# Altium footprint library CPU.PcbLib: 75 footprints (part 1 of 5)
Each footprint in its own frame and in the unit in brackets; x right, y up, seen from the top. Pads: shape width x height; smd on the part's side, far side on the other; paste and mask are expansions set on the pad; w line width, h text height; cw(c..) or ccw(c..) is an arc to the next point about the centre after c.
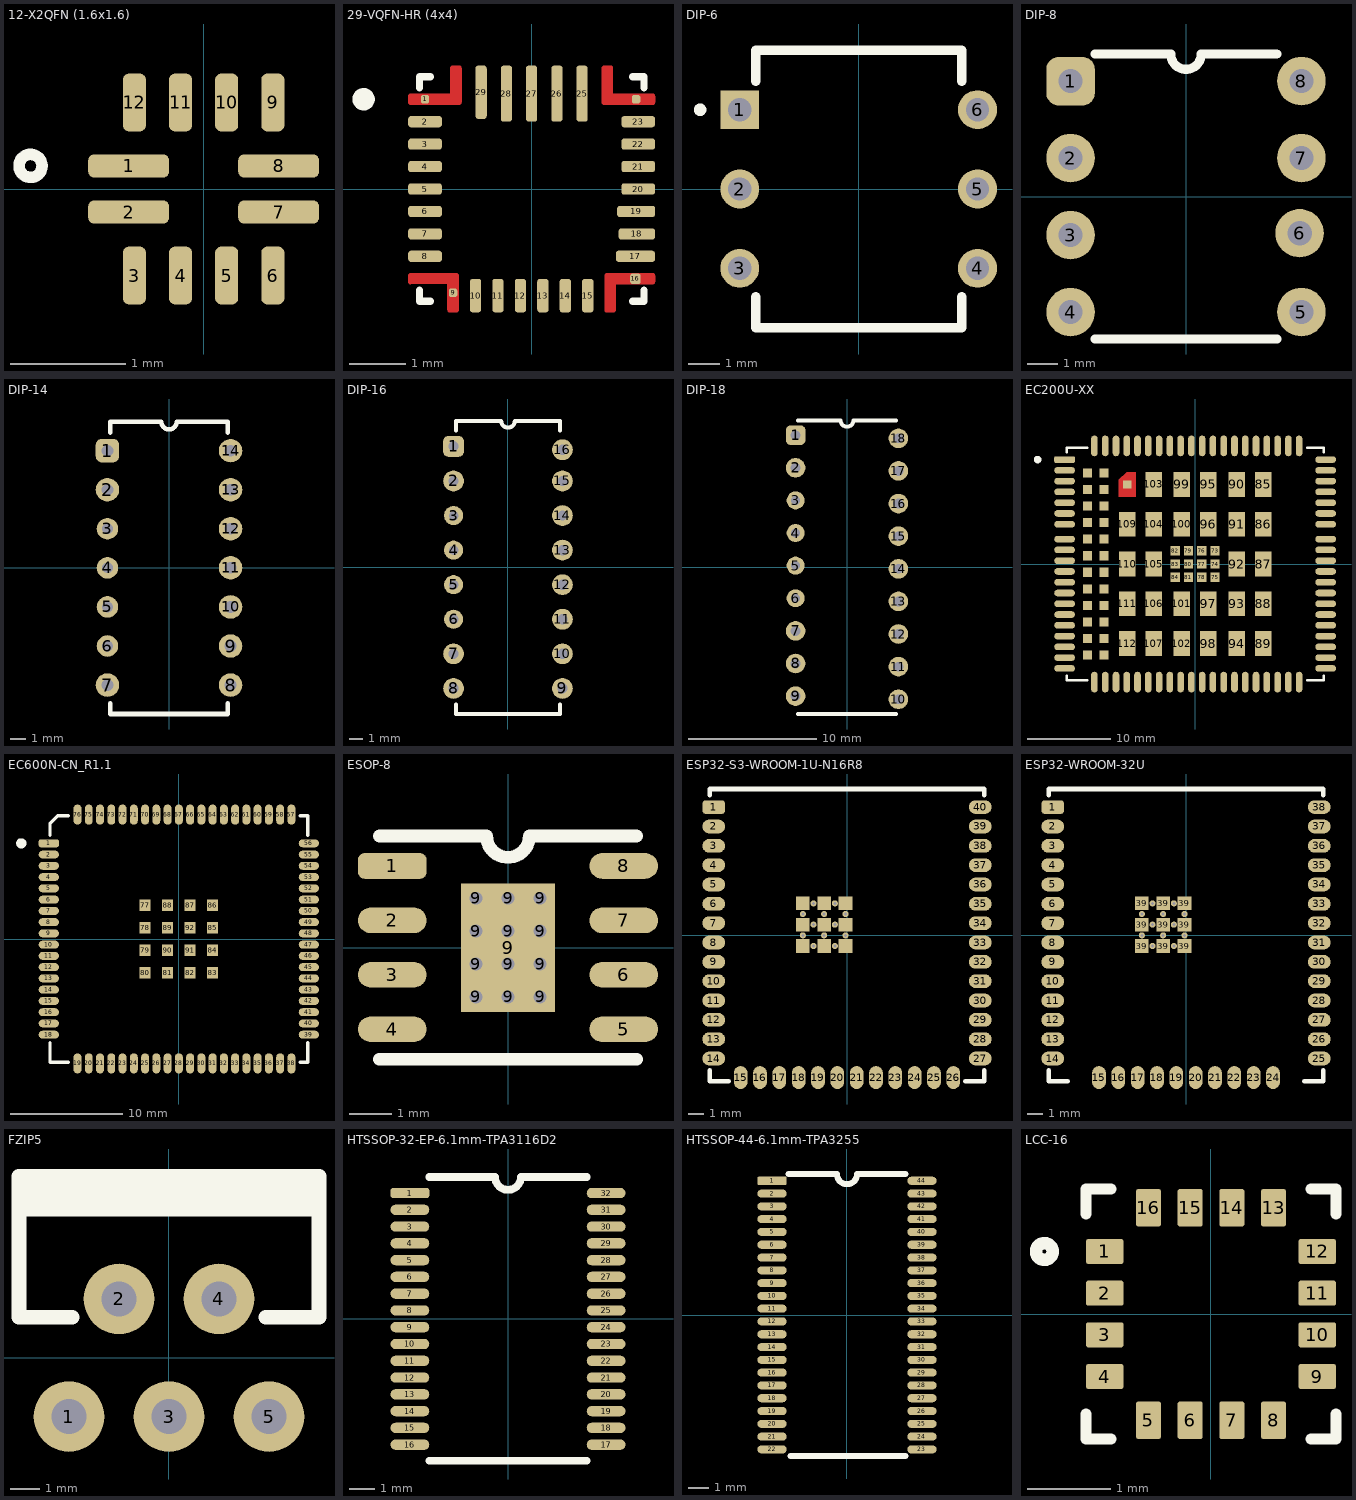
[diagram p0: the footprints below, top view; thin cyan lines are the x and y axes]

## 12-X2QFN (1.6x1.6) [mm]
pads (12):
  rrect50% 0.7x0.2 smd: 1(-0.65,0.2) 2(-0.65,-0.2) 7(0.65,-0.2) 8(0.65,0.2)
  rrect50% 0.2x0.5 smd: 3(-0.6,-0.75) 4(-0.2,-0.75) 5(0.2,-0.75) 6(0.6,-0.75) 9(0.6,0.75) 10(0.2,0.75) 11(-0.2,0.75) 12(-0.6,0.75)
Top Overlay:
  circle w0.1: c-1.5,0.2 r0.1
Top Solder:
  drawing of 2 lines, arcs and shapes, not listed
3D body "step_temp.STEP": height 0.4, standoff 0, extent -0.8,-0.8 0.8,0.8

## 29-VQFN-HR (4x4) [mm]
height 1
pads (29):
  rrect50% 0.15x0.15 smd paste-1 mask+0: 1(-1.9,1.6) 9(-1.4,-1.85) 24(1.863,1.6)
  rrect50% 0.6x0.2 smd mask+0: 2(-1.9,1.2) 3(-1.9,0.8) 4(-1.9,0.4) 5(-1.9,0) 6(-1.9,-0.4) 7(-1.9,-0.8) 8(-1.9,-1.2) 20(1.9,0) 21(1.9,0.4) 22(1.9,0.8) 23(1.9,1.2)
  rrect50% 0.2x0.6 smd mask+0: 10(-1,-1.9) 11(-0.6,-1.9) 12(-0.2,-1.9) 13(0.2,-1.9) 14(0.6,-1.9) 15(1,-1.9)
  rrect50% 0.19x0.19 smd paste-1 mask+0: 16(1.85,-1.6)
  rrect50% 0.7x0.2 smd mask+0: 17(1.85,-1.2)
  rrect50% 0.65x0.2 smd mask+0: 18(1.875,-0.8)
  rrect50% 0.68x0.2 smd mask+0: 19(1.863,-0.4)
  rrect50% 0.2x1 smd mask+0: 25(0.9,1.7) 26(0.45,1.7) 27(0,1.7) 28(-0.45,1.7)
  rrect50% 0.2x0.95 smd mask+0: 29(-0.9,1.725)
Top Layer:
  region: 2.158,-1.501 2.16,-1.501 2.163,-1.502 2.165,-1.502 2.168,-1.503 2.17,-1.504 2.173,-1.505 2.175,-1.507 2.177,-1.508 2.179,-1.51 2.181,-1.511 2.183,-1.513 2.185,-1.515 2.187,-1.517 2.189,-1.519 2.19,-1.521 2.192,-1.523 2.193,-1.525 2.195,-1.527 2.196,-1.53 2.197,-1.532 2.198,-1.535 2.198,-1.537 2.199,-1.54 2.199,-1.542 2.2,-1.545 2.2,-1.547 2.2,-1.55 2.2,-1.65 2.2,-1.653 2.2,-1.655 2.199,-1.658 2.199,-1.66 2.198,-1.663 2.198,-1.665 2.197,-1.668 2.196,-1.67 2.195,-1.673 2.193,-1.675 2.192,-1.677 2.19,-1.679 2.189,-1.681 2.187,-1.683 2.185,-1.685 2.183,-1.687 2.181,-1.689 2.179,-1.69 2.177,-1.692 2.175,-1.693 2.173,-1.695 2.17,-1.696 2.168,-1.697 2.165,-1.698 2.163,-1.698 2.16,-1.699 2.158,-1.699 2.155,-1.7 1.5,-1.7 1.5,-2.15 1.5,-2.153 1.5,-2.155 1.499,-2.158 1.499,-2.16 1.498,-2.163 1.498,-2.165 1.497,-2.168 1.496,-2.17 1.495,-2.173 1.493,-2.175 1.492,-2.177 1.49,-2.179 1.489,-2.181 1.487,-2.183 1.485,-2.185 1.483,-2.187 1.481,-2.189 1.479,-2.19 1.477,-2.192 1.475,-2.193 1.473,-2.195 1.47,-2.196 1.468,-2.197 1.465,-2.198 1.463,-2.198 1.46,-2.199 1.458,-2.199 1.455,-2.2 1.345,-2.2 1.342,-2.199 1.34,-2.199 1.337,-2.198 1.335,-2.198 1.332,-2.197 1.33,-2.196 1.327,-2.195 1.325,-2.193 1.323,-2.192 1.321,-2.19 1.319,-2.189 1.317,-2.187 1.315,-2.185 1.313,-2.183 1.311,-2.181 1.31,-2.179 1.308,-2.177 1.307,-2.175 1.305,-2.173 1.304,-2.17 1.303,-2.168 1.302,-2.165 1.302,-2.163 1.301,-2.16 1.301,-2.158 1.3,-2.155 1.3,-2.153 1.3,-2.15 1.3,-1.55 1.3,-1.547 1.3,-1.545 1.301,-1.542 1.301,-1.54 1.302,-1.537 1.302,-1.535 1.303,-1.532 1.304,-1.53 1.305,-1.527 1.307,-1.525 1.308,-1.523 1.31,-1.521 1.311,-1.519 1.313,-1.517 1.315,-1.515 1.317,-1.513 1.319,-1.511 1.321,-1.51 1.323,-1.508 1.325,-1.507 1.327,-1.505 1.33,-1.504 1.332,-1.503 1.335,-1.502 1.337,-1.502 1.34,-1.501 1.342,-1.501 1.345,-1.5 2.155,-1.5
  region: -1.342,-1.501 -1.34,-1.501 -1.337,-1.502 -1.335,-1.502 -1.332,-1.503 -1.33,-1.504 -1.327,-1.505 -1.325,-1.507 -1.323,-1.508 -1.321,-1.51 -1.319,-1.511 -1.317,-1.513 -1.315,-1.515 -1.313,-1.517 -1.311,-1.519 -1.31,-1.521 -1.308,-1.523 -1.307,-1.525 -1.305,-1.527 -1.304,-1.53 -1.303,-1.532 -1.302,-1.535 -1.302,-1.537 -1.301,-1.54 -1.301,-1.542 -1.3,-1.545 -1.3,-1.547 -1.3,-1.55 -1.3,-2.15 -1.3,-2.153 -1.3,-2.155 -1.301,-2.158 -1.301,-2.16 -1.302,-2.163 -1.302,-2.165 -1.303,-2.168 -1.304,-2.17 -1.305,-2.173 -1.307,-2.175 -1.308,-2.177 -1.31,-2.179 -1.311,-2.181 -1.313,-2.183 -1.315,-2.185 -1.317,-2.187 -1.319,-2.189 -1.321,-2.19 -1.323,-2.192 -1.325,-2.193 -1.327,-2.195 -1.33,-2.196 -1.332,-2.197 -1.335,-2.198 -1.337,-2.198 -1.34,-2.199 -1.342,-2.199 -1.345,-2.2 -1.455,-2.2 -1.458,-2.199 -1.46,-2.199 -1.463,-2.198 -1.465,-2.198 -1.468,-2.197 -1.47,-2.196 -1.473,-2.195 -1.475,-2.193 -1.477,-2.192 -1.479,-2.19 -1.481,-2.189 -1.483,-2.187 -1.485,-2.185 -1.487,-2.183 -1.489,-2.181 -1.49,-2.179 -1.492,-2.177 -1.493,-2.175 -1.495,-2.173 -1.496,-2.17 -1.497,-2.168 -1.498,-2.165 -1.498,-2.163 -1.499,-2.16 -1.499,-2.158 -1.5,-2.155 -1.5,-2.153 -1.5,-2.15 -1.5,-1.7 -2.155,-1.7 -2.158,-1.699 -2.16,-1.699 -2.163,-1.698 -2.165,-1.698 -2.168,-1.697 -2.17,-1.696 -2.173,-1.695 -2.175,-1.693 -2.177,-1.692 -2.179,-1.69 -2.181,-1.689 -2.183,-1.687 -2.185,-1.685 -2.187,-1.683 -2.189,-1.681 -2.19,-1.679 -2.192,-1.677 -2.193,-1.675 -2.195,-1.673 -2.196,-1.67 -2.197,-1.668 -2.198,-1.665 -2.198,-1.663 -2.199,-1.66 -2.199,-1.658 -2.2,-1.655 -2.2,-1.653 -2.2,-1.65 -2.2,-1.55 -2.2,-1.547 -2.2,-1.545 -2.199,-1.542 -2.199,-1.54 -2.198,-1.537 -2.198,-1.535 -2.197,-1.532 -2.196,-1.53 -2.195,-1.527 -2.193,-1.525 -2.192,-1.523 -2.19,-1.521 -2.189,-1.519 -2.187,-1.517 -2.185,-1.515 -2.183,-1.513 -2.181,-1.511 -2.179,-1.51 -2.177,-1.508 -2.175,-1.507 -2.173,-1.505 -2.17,-1.504 -2.168,-1.503 -2.165,-1.502 -2.163,-1.502 -2.16,-1.501 -2.158,-1.501 -2.155,-1.5 -1.345,-1.5
  region: 1.408,2.199 1.41,2.199 1.413,2.198 1.415,2.198 1.418,2.197 1.42,2.196 1.423,2.195 1.425,2.193 1.427,2.192 1.429,2.19 1.431,2.189 1.433,2.187 1.435,2.185 1.437,2.183 1.439,2.181 1.44,2.179 1.442,2.177 1.443,2.175 1.445,2.173 1.446,2.17 1.447,2.168 1.448,2.165 1.448,2.163 1.449,2.16 1.449,2.158 1.45,2.155 1.45,2.153 1.45,2.15 1.45,1.7 2.155,1.7 2.158,1.699 2.16,1.699 2.163,1.698 2.165,1.698 2.168,1.697 2.17,1.696 2.173,1.695 2.175,1.693 2.177,1.692 2.179,1.69 2.181,1.689 2.183,1.687 2.185,1.685 2.187,1.683 2.189,1.681 2.19,1.679 2.192,1.677 2.193,1.675 2.195,1.673 2.196,1.67 2.197,1.668 2.198,1.665 2.198,1.663 2.199,1.66 2.199,1.658 2.2,1.655 2.2,1.653 2.2,1.65 2.2,1.55 2.2,1.547 2.2,1.545 2.199,1.542 2.199,1.54 2.198,1.537 2.198,1.535 2.197,1.532 2.196,1.53 2.195,1.527 2.193,1.525 2.192,1.523 2.19,1.521 2.189,1.519 2.187,1.517 2.185,1.515 2.183,1.513 2.181,1.511 2.179,1.51 2.177,1.508 2.175,1.507 2.173,1.505 2.17,1.504 2.168,1.503 2.165,1.502 2.163,1.502 2.16,1.501 2.158,1.501 2.155,1.5 1.295,1.5 1.292,1.501 1.29,1.501 1.287,1.502 1.285,1.502 1.282,1.503 1.28,1.504 1.277,1.505 1.275,1.507 1.273,1.508 1.271,1.51 1.269,1.511 1.267,1.513 1.265,1.515 1.263,1.517 1.261,1.519 1.26,1.521 1.258,1.523 1.257,1.525 1.255,1.527 1.254,1.53 1.253,1.532 1.252,1.535 1.252,1.537 1.251,1.54 1.251,1.542 1.25,1.545 1.25,1.547 1.25,1.55 1.25,2.15 1.25,2.153 1.25,2.155 1.251,2.158 1.251,2.16 1.252,2.163 1.252,2.165 1.253,2.168 1.254,2.17 1.255,2.173 1.257,2.175 1.258,2.177 1.26,2.179 1.261,2.181 1.263,2.183 1.265,2.185 1.267,2.187 1.269,2.189 1.271,2.19 1.273,2.192 1.275,2.193 1.277,2.195 1.28,2.196 1.282,2.197 1.285,2.198 1.287,2.198 1.29,2.199 1.292,2.199 1.295,2.2 1.405,2.2
  region: -1.292,2.199 -1.29,2.199 -1.287,2.198 -1.285,2.198 -1.282,2.197 -1.28,2.196 -1.277,2.195 -1.275,2.193 -1.273,2.192 -1.271,2.19 -1.269,2.189 -1.267,2.187 -1.265,2.185 -1.263,2.183 -1.261,2.181 -1.26,2.179 -1.258,2.177 -1.257,2.175 -1.255,2.173 -1.254,2.17 -1.253,2.168 -1.252,2.165 -1.252,2.163 -1.251,2.16 -1.251,2.158 -1.25,2.155 -1.25,2.153 -1.25,2.15 -1.25,1.55 -1.25,1.547 -1.25,1.545 -1.251,1.542 -1.251,1.54 -1.252,1.537 -1.252,1.535 -1.253,1.532 -1.254,1.53 -1.255,1.527 -1.257,1.525 -1.258,1.523 -1.26,1.521 -1.261,1.519 -1.263,1.517 -1.265,1.515 -1.267,1.513 -1.269,1.511 -1.271,1.51 -1.273,1.508 -1.275,1.507 -1.277,1.505 -1.28,1.504 -1.282,1.503 -1.285,1.502 -1.287,1.502 -1.29,1.501 -1.292,1.501 -1.295,1.5 -2.155,1.5 -2.158,1.501 -2.16,1.501 -2.163,1.502 -2.165,1.502 -2.168,1.503 -2.17,1.504 -2.173,1.505 -2.175,1.507 -2.177,1.508 -2.179,1.51 -2.181,1.511 -2.183,1.513 -2.185,1.515 -2.187,1.517 -2.189,1.519 -2.19,1.521 -2.192,1.523 -2.193,1.525 -2.195,1.527 -2.196,1.53 -2.197,1.532 -2.198,1.535 -2.198,1.537 -2.199,1.54 -2.199,1.542 -2.2,1.545 -2.2,1.547 -2.2,1.55 -2.2,1.65 -2.2,1.653 -2.2,1.655 -2.199,1.658 -2.199,1.66 -2.198,1.663 -2.198,1.665 -2.197,1.668 -2.196,1.67 -2.195,1.673 -2.193,1.675 -2.192,1.677 -2.19,1.679 -2.189,1.681 -2.187,1.683 -2.185,1.685 -2.183,1.687 -2.181,1.689 -2.179,1.69 -2.177,1.692 -2.175,1.693 -2.173,1.695 -2.17,1.696 -2.168,1.697 -2.165,1.698 -2.163,1.698 -2.16,1.699 -2.158,1.699 -2.155,1.7 -1.45,1.7 -1.45,2.15 -1.45,2.153 -1.45,2.155 -1.449,2.158 -1.449,2.16 -1.448,2.163 -1.448,2.165 -1.447,2.168 -1.446,2.17 -1.445,2.173 -1.443,2.175 -1.442,2.177 -1.44,2.179 -1.439,2.181 -1.437,2.183 -1.435,2.185 -1.433,2.187 -1.431,2.189 -1.429,2.19 -1.427,2.192 -1.425,2.193 -1.423,2.195 -1.42,2.196 -1.418,2.197 -1.415,2.198 -1.413,2.198 -1.41,2.199 -1.408,2.199 -1.405,2.2 -1.295,2.2
Top Overlay:
  circle w0.2: c-2.995,1.6 r0.1
  lines w0.127: -2,-1.8 -2,-2 -1.8,-2 ; -2,1.8 -2,2 -1.8,2 ; 1.8,-2 2,-2 2,-1.8 ; 1.8,2 2,2 2,1.8
Top Paste:
  drawing of 4 lines, arcs and shapes, not listed
Top Solder:
  drawing of 29 lines, arcs and shapes, not listed
3D body "step_temp.STEP": height 1, standoff 0, extent -2,-2 2,2

## DIP-6 [mm]
pads (6):
  rect 1.248x1.248 hole 0.74: 1(-3.81,2.54)
  round 1.248 hole 0.74: 2(-3.81,0) 3(-3.81,-2.54) 4(3.81,-2.54) 5(3.81,0) 6(3.81,2.54)
Top Overlay:
  circle w0.2: c-5.08,2.54 r0.1
  lines w0.3: -3.3,-3.45 -3.3,-4.45 3.3,-4.45 3.3,-3.45 ; -3.3,3.45 -3.3,4.45 3.3,4.45 3.3,3.45
3D body "MOC3041M.STEP": height 5.08, standoff -3.81, extent -3.935,-4.255 3.935,4.255

## DIP-8 [mm]
pads (8):
  rrect50% 1.6x1.6 hole 0.8: 1(-3.81,3.81)
  round 1.6 hole 0.8: 2(-3.81,1.27) 3(-3.81,-1.27) 4(-3.81,-3.81) 5(3.81,-3.81) 6(3.75,-1.209) 7(3.81,1.27) 8(3.81,3.81)
Top Overlay:
  lines w0.3: -3.004,4.7 -0.504,4.7 ; -3,-4.7 3,-4.7 ; -0.5,4.7 ccw(c0,4.7) 0.5,4.7 ; 0.496,4.7 2.996,4.7
3D body "DIP8N.STEP": height 4.09, standoff -2.76, extent -4.254,-4.75 4.273,4.75

## DIP-14 [mil]
pads (14):
  rrect50% 60x60 hole 30 mask+5.91: 1(-157.48,300)
  round 60 hole 30 mask+5.91: 2(-157.48,200) 7(-157.48,-300) 8(157.48,-300) 9(157.48,-200) 10(157.48,-100) 11(157.48,0) 12(157.48,100) 13(157.48,200) 14(157.48,300)
  round 55.12 hole 27.56 mask+5.91: 3(-157.48,100) 4(-157.48,0) 5(-157.48,-100) 6(-157.48,-200)
Top Overlay:
  lines w11.81: -150,-346.46 -150,-374.02 150,-374.02 150,-346.46 ; -150,346.46 -150,374.02 -19.68,374.02 ccw(c0,374.02) 19.68,374.02 150,374.02 150,346.46
3D body "TL084.step": height 173.23, standoff -109.25, extent -154.92,-350 154.92,350

## DIP-16 [mil]
pads (16):
  rrect50% 60x60 hole 30 mask+5.91: 1(-157.48,350)
  round 60 hole 30 mask+5.91: 2(-157.48,250) 7(-157.48,-250) 8(-157.48,-350) 9(157.48,-350) 10(157.48,-250) 11(157.48,-150) 12(157.48,-50) 13(157.48,50) 14(157.48,150) 15(157.48,250) 16(157.48,340.3)
  round 55.12 hole 27.56 mask+5.91: 3(-157.48,150) 4(-157.48,50) 5(-157.48,-50) 6(-157.48,-150)
Top Overlay:
  lines w11.81: -150,-396.46 -150,-424.02 150,-424.02 150,-396.46 ; -150,396.46 -150,424.02 -19.68,424.02 ccw(c0,424.02) 19.69,424.02 150,424.02 150,396.46
3D body "SN74LS47NE4.STEP": height 200, standoff -129.92, extent -155.51,-420.08 155.51,420.08

## DIP-18 [mil]
pads (18):
  rrect50% 60x60 hole 30 mask+5.91: 1(-157.48,404.85)
  round 60 hole 30 mask+5.91: 2(-157.48,304.85) 7(-157.48,-195.15) 8(-157.48,-295.15) 9(-157.48,-395.15) 10(157.48,-404.85) 11(157.48,-304.85) 12(157.48,-204.85) 13(157.48,-104.85) 14(157.48,-4.85) 15(157.48,95.15) 16(157.48,195.15) 17(157.48,295.15) 18(157.48,395.15)
  round 55.12 hole 27.56 mask+5.91: 3(-157.48,204.85) 4(-157.48,104.85) 5(-157.48,4.85) 6(-157.48,-95.15)
Top Overlay:
  lines w11.81: -150,-450 150,-450 ; -150,450 -19.68,450 ccw(c0,450) 19.68,450 150,450
3D body "DIP-18.STEP": height 148.66, standoff -135.98, extent -172.24,-457.48 172.24,457.48

## EC200U-XX [mm]
pads (144):
  rrect50% 2.5x0.8 smd mask+0.15: 1(-15.75,12.6)
  oval 2.5x0.8 smd mask+0.15: 2(-15.75,11.3) 3(-15.75,10) 4(-15.75,8.7) 5(-15.75,7.4) 6(-15.75,6.1) 7(-15.75,4.8) 8(-15.75,0.4) 9(-15.75,-0.9) 10(-15.75,-2.2) 11(-15.75,-3.5) 12(-15.75,-4.8) 13(-15.75,-6.1) 14(-15.75,-7.4) 15(-15.75,-8.7) 16(-15.75,-10) 17(-15.75,-11.3) 18(-15.75,-12.6) 37(15.75,-12.6) 38(15.75,-11.3) 39(15.75,-10) 40(15.75,-8.7) 41(15.75,-7.4) 42(15.75,-6.1) 43(15.75,-4.8) 44(15.75,-3.5) 45(15.75,-2.2) 46(15.75,-0.9) 47(15.75,0.4) 48(15.75,4.8) 49(15.75,6.1) 50(15.75,7.4) 51(15.75,8.7) 52(15.75,10) 53(15.75,11.3) 54(15.75,12.6) 141(-15.75,3) 142(-15.75,1.7) 143(15.75,1.7) 144(15.75,3)
  oval 0.8x2.5 smd mask+0.15: 19(-9.55,-14.25) 20(-8.25,-14.25) 21(-6.95,-14.25) 22(-5.65,-14.25) 23(-4.35,-14.25) 24(-3.05,-14.25) 25(-1.75,-14.25) 26(-0.45,-14.25) 27(0.85,-14.25) 28(2.15,-14.25) 29(3.45,-14.25) 30(4.75,-14.25) 31(6.05,-14.25) 32(7.35,-14.25) 33(8.65,-14.25) 34(9.95,-14.25) 35(11.25,-14.25) 36(12.55,-14.25) 55(12.55,14.25) 56(11.25,14.25) 57(9.95,14.25) 58(8.65,14.25) 59(7.35,14.25) 60(6.05,14.25) 61(4.75,14.25) 62(3.45,14.25) 63(2.15,14.25) 64(0.85,14.25) 65(-0.45,14.25) 66(-1.75,14.25) 67(-3.05,14.25) 68(-4.35,14.25) 69(-5.65,14.25) 70(-6.95,14.25) 71(-8.25,14.25) 72(-9.55,14.25) 113(-10.85,14.25) 114(-12.15,14.25) 115(-10.85,-14.25) 116(-12.15,-14.25)
  rect 1.1x1.1 smd mask+0.15: 73(2.4,1.6) 74(2.4,0) 75(2.4,-1.6) 76(0.8,1.6) 77(0.8,0) 78(0.8,-1.6) 79(-0.8,1.6) 80(-0.8,0) 81(-0.8,-1.6) 82(-2.4,1.6) 83(-2.4,0) 84(-2.4,-1.6) 117(-11,11) 118(-11,9) 119(-11,7) 120(-11,5) 121(-11,3) 122(-11,1) 123(-11,-1) 124(-11,-3) 125(-11,-5) 126(-11,-7) 127(-11,-9) 128(-11,-11) 129(-13,11) 130(-13,9) 131(-13,7) 132(-13,5) 133(-13,3) 134(-13,1) 135(-13,-1) 136(-13,-3) 137(-13,-5) 138(-13,-7) 139(-13,-9) 140(-13,-11)
  rect 2x3 smd mask+0.15: 85(8.2,9.6) 86(8.2,4.8) 87(8.2,0) 88(8.2,-4.8) 89(8.2,-9.6) 90(5,9.6) 91(5,4.8) 92(5,0) 93(5,-4.8) 94(5,-9.6) 95(1.6,9.6) 96(1.6,4.8) 97(1.6,-4.8) 98(1.6,-9.6) 99(-1.6,9.6) 100(-1.6,4.8) 101(-1.6,-4.8) 102(-1.6,-9.6) 103(-5,9.6) 104(-5,4.8) 105(-5,0) 106(-5,-4.8) 107(-5,-9.6) 109(-8.2,4.8) 110(-8.2,0) 111(-8.2,-4.8) 112(-8.2,-9.6)
  rect 1x1 smd paste-1 mask+0: 108(-8.2,9.6)
Top Layer:
  region: -7.15,8.1 -9.2,8.1 -9.2,10.15 -8.25,11.1 -7.15,11.1
Top Overlay:
  circle w0.5: c-19,12.6 r0.2
  lines w0.3: -15.5,-13.5 -15.5,-14 -13,-14 ; -15.5,13.5 -15.5,14 -13,14 ; 13.5,-14 15.5,-14 15.5,-13.5 ; 13.5,14 15.5,14 15.5,13.5
Top Paste:
  region: -7.15,8.1 -9.2,8.1 -9.2,10 -8.1,11.1 -7.15,11.1
Top Solder:
  region: -7,7.95 -9.35,7.95 -9.35,10.25 -8.35,11.25 -7,11.25
3D body "EC200UCNAA-N05-SGNSA--3DModel-STEP-258128.STEP": height 2.55, standoff 0.2, extent -15.5,-14 15.5,14

## EC600N-CN_R1.1 [mm]
pads (92):
  rrect50% 1.8x0.7 smd mask+0.15: 1(-11.55,8.5)
  oval 1.8x0.7 smd mask+0.15: 2(-11.55,7.5) 3(-11.55,6.5) 4(-11.55,5.5) 5(-11.55,4.5) 6(-11.55,3.5) 7(-11.55,2.5) 8(-11.55,1.5) 9(-11.55,0.5) 10(-11.55,-0.5) 11(-11.55,-1.5) 12(-11.55,-2.5) 13(-11.55,-3.5) 14(-11.55,-4.5) 15(-11.55,-5.5) 16(-11.55,-6.5) 17(-11.55,-7.5) 18(-11.55,-8.5) 39(11.55,-8.5) 40(11.55,-7.5) 41(11.55,-6.5) 42(11.55,-5.5) 43(11.55,-4.5) 44(11.55,-3.5) 45(11.55,-2.5) 46(11.55,-1.5) 47(11.55,-0.5) 48(11.55,0.5) 49(11.55,1.5) 50(11.55,2.5) 51(11.55,3.5) 52(11.55,4.5) 53(11.55,5.5) 54(11.55,6.5) 55(11.55,7.5) 56(11.55,8.5)
  oval 0.7x1.8 smd mask+0.15: 19(-9,-11.05) 20(-8,-11.05) 21(-7,-11.05) 22(-6,-11.05) 23(-5,-11.05) 24(-4,-11.05) 25(-3,-11.05) 26(-2,-11.05) 27(-1,-11.05) 28(0,-11.05) 29(1,-11.05) 30(2,-11.05) 31(3,-11.05) 32(4,-11.05) 33(5,-11.05) 34(6,-11.05) 35(7,-11.05) 36(8,-11.05) 37(9,-11.05) 38(10,-11.05) 57(10,11.05) 58(9,11.05) 59(8,11.05) 60(7,11.05) 61(6,11.05) 62(5,11.05) 63(4,11.05) 64(3,11.05) 65(2,11.05) 66(1,11.05) 67(0,11.05) 68(-1,11.05) 69(-2,11.05) 70(-3,11.05) 71(-4,11.05) 72(-5,11.05) 73(-6,11.05) 74(-7,11.05) 75(-8,11.05) 76(-9,11.05)
  rect 1x1 smd mask+0.15: 77(-3,3) 78(-3,1) 79(-3,-1) 80(-3,-3) 81(-1,-3) 82(1,-3) 83(3,-3) 84(3,-1) 85(3,1) 86(3,3) 87(1,3) 88(-1,3) 89(-1,1) 90(-1,-1) 91(1,-1) 92(1,1)
Top Overlay:
  circle w0.5: c-14,8.5 r0.2
  lines w0.3: -11.45,-9.2 -11.45,-10.95 -9.8,-10.95 ; -11.45,9.2 -11.45,10.25 -10.75,10.95 -9.8,10.95 ; 10.8,-10.95 11.45,-10.95 11.45,-9.2 ; 10.8,10.95 11.45,10.95 11.45,9.2
3D body "Quectel_EC600S-CN_3D_Dimensions_V1.0_v2[1].step": height 2.39, standoff -0.01, extent -11.95,-11.45 11.95,11.45

## ESOP-8 [mm]
height 1.75
pads (21):
  rrect50% 1.6x0.6 smd: 1(-2.7,1.905)
  oval 1.6x0.6 smd: 2(-2.7,0.635) 3(-2.7,-0.635) 4(-2.7,-1.905) 5(2.7,-1.905) 6(2.7,-0.635) 7(2.7,0.635) 8(2.7,1.905)
  round 0.5 hole 0.3: 9(-0.75,-1.15) 9(-0.75,-0.383) 9(-0.75,0.383) 9(-0.75,1.15) 9(0,-1.15) 9(0,-0.383) 9(0,0.383) 9(0,1.15) 9(0.75,-1.15) 9(0.75,-0.383) 9(0.75,0.383) 9(0.75,1.15)
  rect 2.2x3 smd paste-3: 9(0,0)
Top Overlay:
  lines w0.3: -3,-2.605 3,-2.605 ; -3,2.605 -0.5,2.605 ccw(c0,2.605) 0.5,2.605 3,2.605
Top Paste:
  region: 1.3,-1.7 -1.3,-1.7 -1.3,1.7 1.3,1.7
3D body "step_temp.STEP": height 1.75, standoff 0, extent -3,-2.45 3,2.45

## ESP32-S3-WROOM-1U-N16R8 [mm]
height 3.35
pads (61):
  rrect50% 1.5x0.9 smd: 1(-8.75,8.41)
  oval 1.5x0.9 smd: 2(-8.75,7.14) 3(-8.75,5.87) 4(-8.75,4.6) 5(-8.75,3.33) 6(-8.75,2.06) 7(-8.75,0.79) 8(-8.75,-0.48) 9(-8.75,-1.75) 10(-8.75,-3.02) 11(-8.75,-4.29) 12(-8.75,-5.56) 13(-8.75,-6.83) 14(-8.75,-8.1) 27(8.75,-8.1) 28(8.75,-6.83) 29(8.75,-5.56) 30(8.75,-4.29) 31(8.75,-3.02) 32(8.75,-1.75) 33(8.75,-0.48) 34(8.75,0.79) 35(8.75,2.06) 36(8.75,3.33) 37(8.75,4.6) 38(8.75,5.87) 39(8.75,7.14) 40(8.75,8.41)
  oval 0.9x1.5 smd: 15(-6.985,-9.35) 16(-5.715,-9.35) 17(-4.445,-9.35) 18(-3.175,-9.35) 19(-1.905,-9.35) 20(-0.635,-9.35) 21(0.635,-9.35) 22(1.905,-9.35) 23(3.175,-9.35) 24(4.445,-9.35) 25(5.715,-9.35) 26(6.985,-9.35)
  rect 0.9x0.9 smd: 41_1(-2.9,2.09) 41_2(-1.5,2.09) 41_3(-0.1,2.09) 41_4(-2.9,0.69) 41_5(-1.5,0.69) 41_6(-0.1,0.69) 41_7(-2.9,-0.71) 41_8(-1.5,-0.71) 41_9(-0.1,-0.71)
  round 0.4 hole 0.2 mask+0: 41_10(-2.2,2.09) 41_11(-0.8,2.09) 41_12(-2.9,1.39) 41_13(-1.5,1.39) 41_14(-0.1,1.39) 41_15(-2.2,0.69) 41_16(-0.8,0.69) 41_17(-2.9,-0.01) 41_18(-1.5,-0.01) 41_19(-0.1,-0.01) 41_20(-2.2,-0.71) 41_21(-0.8,-0.71)
Top Overlay:
  lines w0.3: -9,-8.87 -9,-9.6 -7.755,-9.6 ; -9,9.18 -9,9.6 9,9.6 9,9.18 ; 7.755,-9.6 9,-9.6 9,-8.87
3D body "step_temp.STEP": height 3.35, standoff 0, extent -9,-9.6 9,9.6

## ESP32-WROOM-32U [mm]
height 3.35
pads (59):
  rrect50% 1.5x0.9 smd: 1(-8.75,8.41)
  oval 1.5x0.9 smd: 2(-8.75,7.14) 3(-8.75,5.87) 4(-8.75,4.6) 5(-8.75,3.33) 6(-8.75,2.06) 7(-8.75,0.79) 8(-8.75,-0.48) 9(-8.75,-1.75) 10(-8.75,-3.02) 11(-8.75,-4.29) 12(-8.75,-5.56) 13(-8.75,-6.83) 14(-8.75,-8.1) 25(8.75,-8.1) 26(8.75,-6.83) 27(8.75,-5.56) 28(8.75,-4.29) 29(8.75,-3.02) 30(8.75,-1.75) 31(8.75,-0.48) 32(8.75,0.79) 33(8.75,2.06) 34(8.75,3.33) 35(8.75,4.6) 36(8.75,5.87) 37(8.75,7.14) 38(8.75,8.41)
  oval 0.9x1.5 smd: 15(-5.715,-9.35) 16(-4.445,-9.35) 17(-3.175,-9.35) 18(-1.905,-9.35) 19(-0.635,-9.35) 20(0.635,-9.35) 21(1.905,-9.35) 22(3.175,-9.35) 23(4.445,-9.35) 24(5.715,-9.35)
  rect 0.9x0.9 smd: 39(-2.9,-0.71) 39(-2.9,0.69) 39(-2.9,2.09) 39(-1.5,-0.71) 39(-1.5,0.69) 39(-1.5,2.09) 39(-0.1,-0.71) 39(-0.1,0.69) 39(-0.1,2.09)
  round 0.4 hole 0.2 mask+0: 39(-2.9,-0.01) 39(-2.9,1.39) 39(-2.2,-0.71) 39(-2.2,0.69) 39(-2.2,2.09) 39(-1.5,-0.01) 39(-1.5,1.39) 39(-0.8,-0.71) 39(-0.8,0.69) 39(-0.8,2.09) 39(-0.1,-0.01) 39(-0.1,1.39)
Top Overlay:
  lines w0.3: -9,-8.87 -9,-9.6 -7.755,-9.6 ; -9,9.18 -9,9.6 9,9.6 9,9.18 ; 7.755,-9.6 9,-9.6 9,-8.87
3D body "ESP32-WROOM-32U-N4.STEP": height 3.35, standoff 0, extent -9,-9.6 9,9.6

## FZIP5 [mm]
pads (5):
  round 2.4 hole 1.2 mask+0.2: 1(-3.4,-2) 2(-1.7,2) 3(0,-2) 4(1.7,2) 5(3.4,-2)
Top Overlay:
  rectangle: -5.1,4.805 5.1,6.175
  lines w0.5: -3.3,1.375 -5.1,1.375 -5.1,6.175 5.1,6.175 5.1,1.375 3.3,1.375
3D body "TDA2030AV.STEP": height 21.15, standoff -4.55, extent -5.2,-2.325 5.2,6.175

## HTSSOP-32-EP-6.1mm-TPA3116D2 [mm]
pads (32):
  rrect50% 1.5x0.4 smd: 1(-3.8,4.875)
  oval 1.5x0.4 smd: 2(-3.8,4.225) 3(-3.8,3.575) 4(-3.8,2.925) 5(-3.8,2.275) 6(-3.8,1.625) 7(-3.8,0.975) 8(-3.8,0.325) 9(-3.8,-0.325) 10(-3.8,-0.975) 11(-3.8,-1.625) 12(-3.8,-2.275) 13(-3.8,-2.925) 14(-3.8,-3.575) 15(-3.8,-4.225) 16(-3.8,-4.875) 17(3.8,-4.875) 18(3.8,-4.225) 19(3.8,-3.575) 20(3.8,-2.925) 21(3.8,-2.275) 22(3.8,-1.625) 23(3.8,-0.975) 24(3.8,-0.325) 25(3.8,0.325) 26(3.8,0.975) 27(3.8,1.625) 28(3.8,2.275) 29(3.8,2.925) 30(3.8,3.575) 31(3.8,4.225) 32(3.8,4.875)
Top Overlay:
  lines w0.3: -3.05,-5.5 3.05,-5.5 ; -3.05,5.5 -0.5,5.5 ccw(c0,5.5) 0.5,5.5 3.05,5.5
3D body "TPA3116D2.x_b": height 1.16, standoff 0, extent -4.15,-5.55 4.15,5.55

## HTSSOP-44-6.1mm-TPA3255 [mm]
pads (44):
  rrect25% 1.45x0.4 smd: 1(-3.72,6.667)
  oval 1.45x0.4 smd: 2(-3.72,6.032) 3(-3.72,5.397) 4(-3.72,4.763) 5(-3.72,4.127) 6(-3.72,3.492) 7(-3.72,2.857) 8(-3.72,2.222) 9(-3.72,1.587) 10(-3.72,0.953) 11(-3.72,0.318) 12(-3.72,-0.318) 13(-3.72,-0.953) 14(-3.72,-1.587) 15(-3.72,-2.222) 16(-3.72,-2.857) 17(-3.72,-3.492) 18(-3.72,-4.127) 19(-3.72,-4.763) 20(-3.72,-5.397) 21(-3.72,-6.032) 22(-3.72,-6.667) 23(3.72,-6.667) 24(3.72,-6.032) 25(3.72,-5.397) 26(3.72,-4.763) 27(3.72,-4.127) 28(3.72,-3.492) 29(3.72,-2.857) 30(3.72,-2.222) 31(3.72,-1.587) 32(3.72,-0.953) 33(3.72,-0.318) 34(3.72,0.318) 35(3.72,0.953) 36(3.72,1.587) 37(3.72,2.222) 38(3.72,2.857) 39(3.72,3.492) 40(3.72,4.127) 41(3.72,4.763) 42(3.72,5.397) 43(3.72,6.032) 44(3.72,6.667)
Top Overlay:
  lines w0.3: -2.9,7 -0.5,7 ccw(c0,7) 0.5,7 2.9,7 ; -2.8,-7 2.9,-7
3D body "TPA3255DDRV.STEP": height 1.2, standoff 0, extent -4.05,-7 4.05,7

## LCC-16 [mm]
pads (16):
  rrect17% 0.45x0.3 smd mask+0.1: 1(-1.275,0.75) 2(-1.275,0.25) 3(-1.275,-0.25) 4(-1.275,-0.75) 9(1.275,-0.75) 10(1.275,-0.25) 11(1.275,0.25) 12(1.275,0.75)
  rrect17% 0.3x0.45 smd mask+0.1: 5(-0.75,-1.275) 6(-0.25,-1.275) 7(0.25,-1.275) 8(0.75,-1.275) 13(0.75,1.275) 14(0.25,1.275) 15(-0.25,1.275) 16(-0.75,1.275)
Top Overlay:
  circle w0.15: c-2,0.75 r0.1
  lines w0.127: -1.5,-1.2 -1.5,-1.5 -1.2,-1.5 ; -1.5,1.2 -1.5,1.5 -1.2,1.5 ; 1.2,-1.5 1.5,-1.5 1.5,-1.2 ; 1.2,1.5 1.5,1.5 1.5,1.2
3D body "HMC5883L-TR.STEP": height 0.9, standoff 0, extent -1.5,-1.5 1.5,1.5